# EAGLE library part SN74LVC2T45DCTR (library level_shifter)
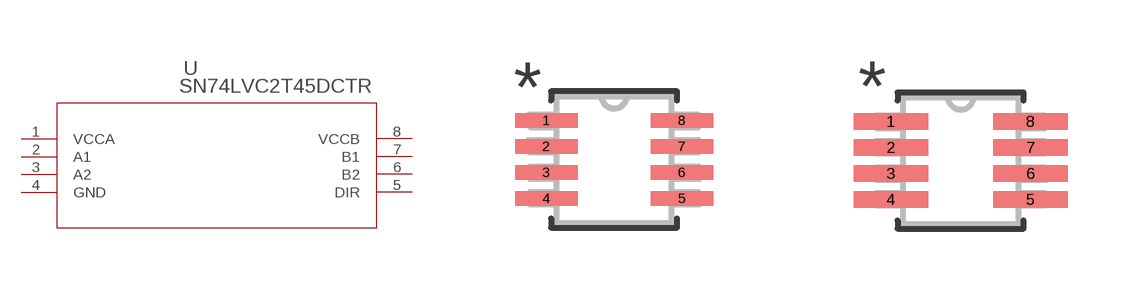
[diagram p0: symbol with the pads of DCT8; footprints DCT8, DCT8-M]

Designator prefix U

## SN74LVC2T45DCTR (MANUFACTURER_PART_NUMBER: SN74LVC2T45DCTR; VENDOR: Texas Instruments)  [DCT8]
1  VCCA  pwr
2  A1  in
3  A2  in
4  GND  pwr
5  DIR  in
6  B2  in
7  B1  in
8  VCCB  pwr

## SN74LVC2T45DCTRDCT8-M (MANUFACTURER_PART_NUMBER: SN74LVC2T45DCTR; VENDOR: Texas Instruments)  [DCT8-M]
Pads as for DCT8

## SN74LVC2T45DCTRDCT8-L (MANUFACTURER_PART_NUMBER: SN74LVC2T45DCTR; VENDOR: Texas Instruments)  [DCT8-L]
Pads as for DCT8

## Footprint DCT8 (pad centres in mm)
smd 1.562 x 0.356: 1 -1.695,0.975; 2 -1.695,0.325; 3 -1.695,-0.325; 4 -1.695,-0.975; 5 1.695,-0.975; 6 1.695,-0.325; 7 1.695,0.325; 8 1.695,0.975

## Footprint DCT8-M (pad centres in mm)
smd 1.867 x 0.406: 1 -1.746,0.975; 2 -1.746,0.325; 3 -1.746,-0.325; 4 -1.746,-0.975; 5 1.746,-0.975; 6 1.746,-0.325; 7 1.746,0.325; 8 1.746,0.975

## Footprint DCT8-L (pad centres in mm)
smd 1.257 x 0.305: 1 -1.645,0.975; 2 -1.645,0.325; 3 -1.645,-0.325; 4 -1.645,-0.975; 5 1.645,-0.975; 6 1.645,-0.325; 7 1.645,0.325; 8 1.645,0.975